# EAGLE library part TLV5620 (library mru-led)
ic quad 8-bit serial d/a 14-dip
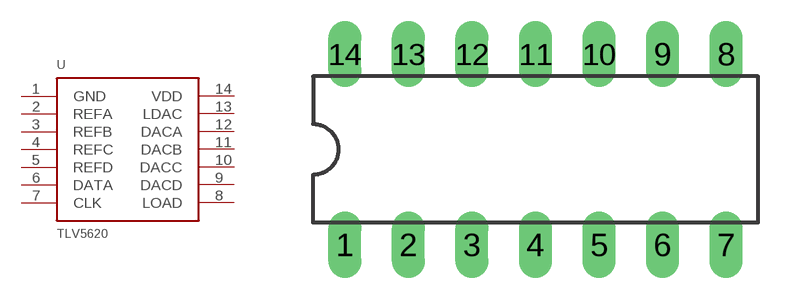
[diagram p2: symbol with the pads of DIL14; footprint DIL14]

Designator prefix -

## TLV5620  [DIL14]
1  GND  pwr
2  REFA  in
3  REFB  in
4  REFC  in
5  REFD  in
6  DATA  in
7  CLK  in
8  LOAD  in
9  DACD  out
10  DACC  out
11  DACB  out
12  DACA  out
13  LDAC  in
14  VDD  pwr

## Footprint DIL14 (pad centres in mm)
Dual In Line Package
drill 0.813 long: 1 -7.62,-3.81; 2 -5.08,-3.81; 3 -2.54,-3.81; 4 0,-3.81; 5 2.54,-3.81; 6 5.08,-3.81; 7 7.62,-3.81; 8 7.62,3.81; 9 5.08,3.81; 10 2.54,3.81; 11 0,3.81; 12 -2.54,3.81; 13 -5.08,3.81; 14 -7.62,3.81